# EAGLE library part WE-TVS-SS_MSOP-10L_82401444 (library Wurth_EMC Components_WE-TVS)
WE-TVS TVS Diode – Super Speed Series Characteristics Fast turn-on Low clamping voltage Very low capacitance Rail to Rail protection Small package Epoxy flame resistant UL94-V0 Applications Super Speed data lines HDMI 1.3/1.4/2.0, DVI DisplayPort USB 3.1 Gen 1 (5Gb/s) SATA and eSATA GBit LAN Thunderbolt LVDS ESD protection in accordance with EN 61000-4-2 – 8 kV contact discharge – 15 kV air discharge SS = Super Speed <https://www.we-online.com/catalog/media/o106434v209%20Family_WE-TVS-SuperSpeed.jpg> Details see: https://www.we-online.com/catalog/en/WE-TVS-SS Updated by Ella Wu 2019-07-12 2019 (C) Wurth Elektronik
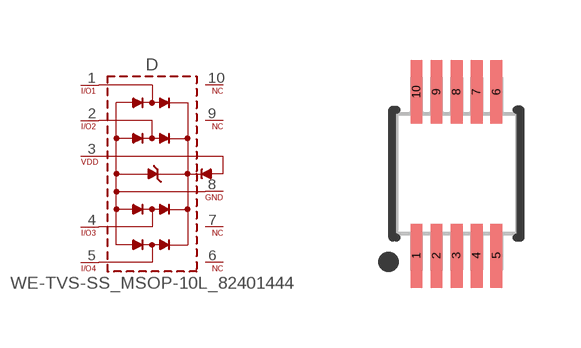
[diagram p4: symbol with the pads of WE-TVS_MSOP-10L; footprint WE-TVS_MSOP-10L]

Designator prefix D

## WE-TVS-SS_MSOP-10L_82401444 (C-CH: 0.6pF; CHANNELS: 4+1; DATASHEET-URL: https://www.we-online.com/catalog/datasheet/82401444.pdf; IPEAK: 5A; MOUNT: SMT; PART-NUMBER: 82401444; VALUE: 5Vdc; VBR: 6V)  [WE-TVS_MSOP-10L]
1  I/O1  pas
2  I/O2  pas
3  VDD  pas
4  I/O3  pas
5  I/O4  pas
6  6  pas
7  7  pas
8  GND  pas
9  9  pas
10  10  pas

## Footprint WE-TVS_MSOP-10L (pad centres in mm)
WE-TVS TVS Diode Size: MSOP-10L L X W X H = 4.9mm X 3mm X 0.975mm
smd 0.3 x 1.6: 1 -1,-2.05; 2 -0.5,-2.05; 3 0,-2.05; 4 0.5,-2.05; 5 1,-2.05; 6 1,2.05; 7 0.5,2.05; 8 0,2.05; 9 -0.5,2.05; 10 -1,2.05